# Altium footprint library HGH.PcbLib: 336 footprints (part 13 of 21)
Each footprint in its own frame and in the unit in brackets; x right, y up, seen from the top. Pads: shape width x height; smd on the part's side, far side on the other; paste and mask are expansions set on the pad; w line width, h text height; cw(c..) or ccw(c..) is an arc to the next point about the centre after c.
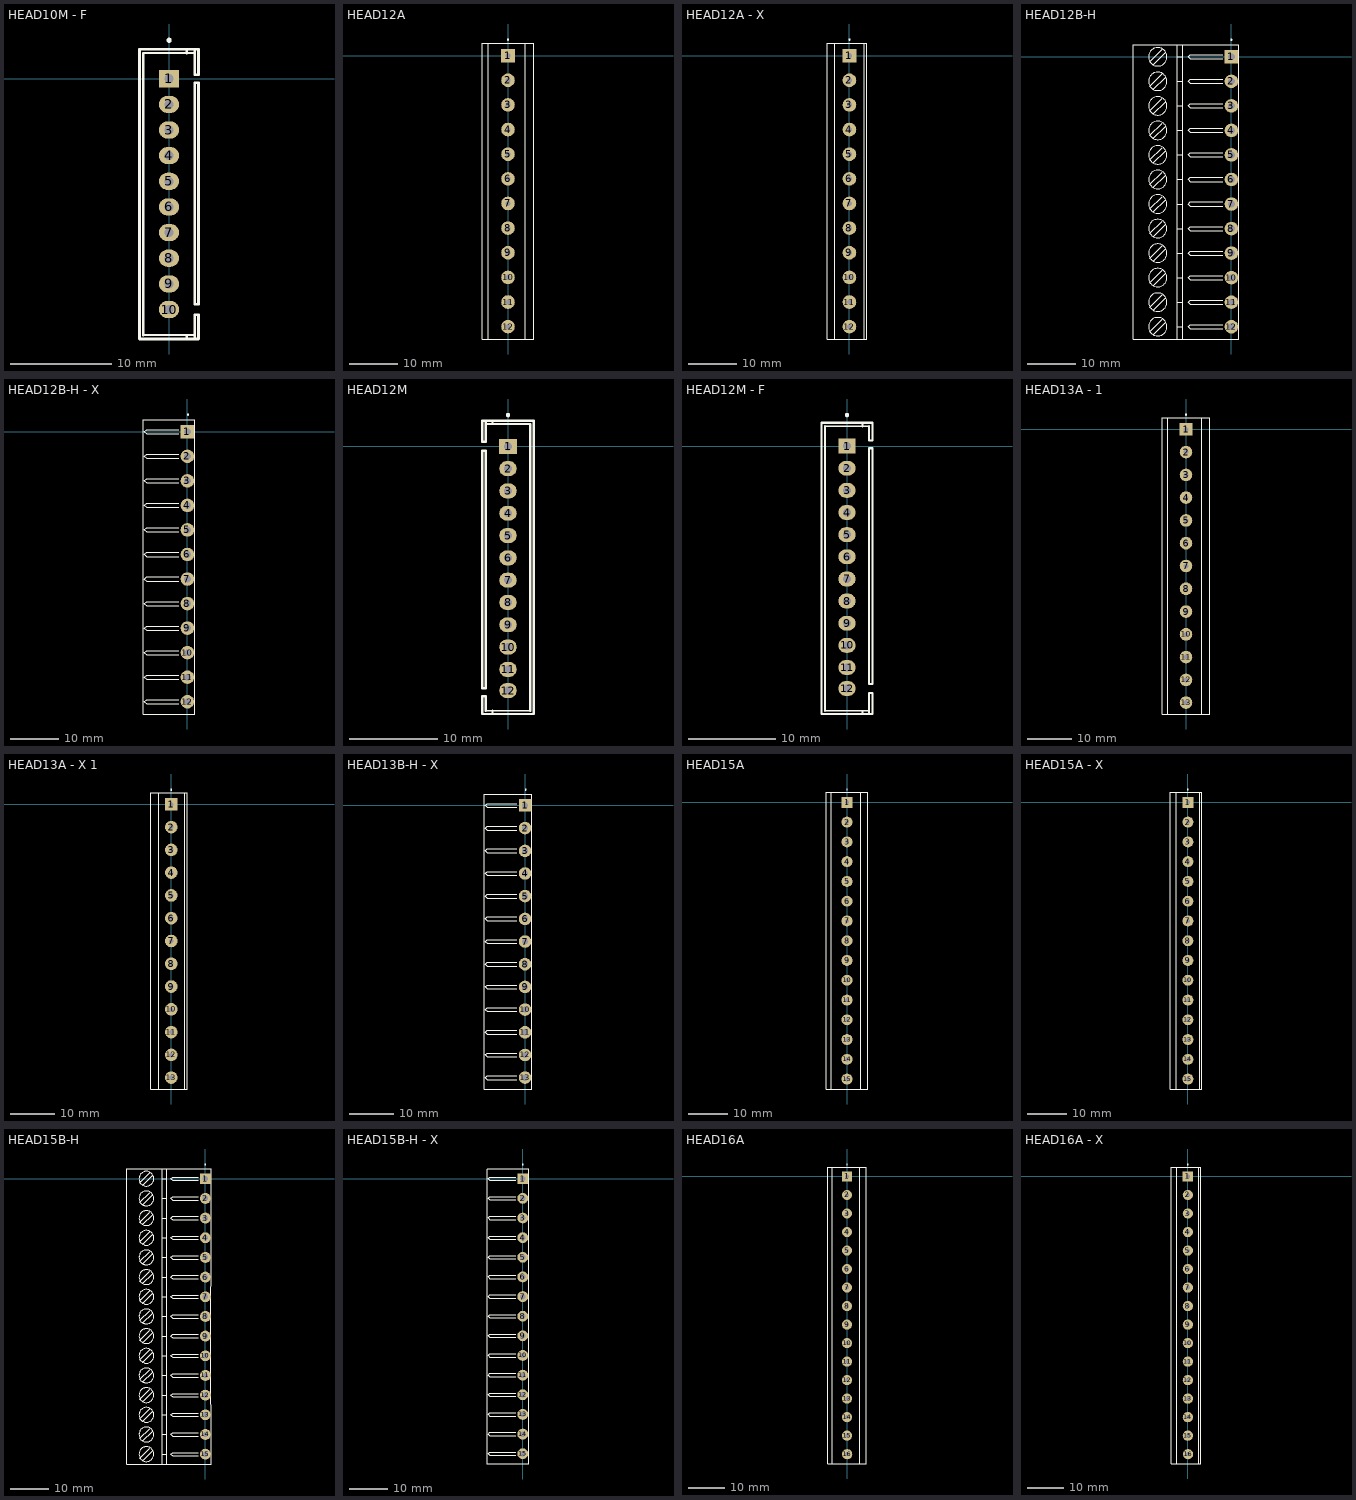
[diagram p12: the footprints below, top view; thin cyan lines are the x and y axes]

## HEAD10M - F [mm]
pads (10):
  rect 2x1.7 hole 0.9: 1(0,0)
  oval 2x1.7 hole 0.9: 2(0,-2.54) 3(0,-5.08) 4(0,-7.62) 5(0,-10.16) 6(0,-12.7) 7(0,-15.24) 8(0,-17.78) 9(0,-20.32) 10(0,-22.86)
Top Overlay:
  circle w0.25: c0.002,3.81 r0.125
  lines w0.2: -2.54,-25.4 2.54,-25.4 ; -2.54,2.54 2.54,2.54
  lines w0.254: -2.54,-25.4 -2.54,2.54 ; 1.778,-25.654 1.778,-25.4 ; 1.778,2.54 1.778,2.921 ; 2.54,-25.654 2.54,-25.4 2.54,-23.368 2.921,-23.368 2.921,-25.781 -2.921,-25.781 -2.921,2.921 2.921,2.921 2.921,0.381 2.54,0.381 2.54,2.54 2.54,2.794 ; 2.921,-0.508 2.921,-22.352 2.54,-22.352 2.54,-0.381 2.921,-0.381

## HEAD12A [mm]
pads (12):
  rect 2.8x2.8 hole 1.1: 1(0,0)
  round 2.8 hole 1.1: 2(0,-5.08) 3(0,-10.16) 4(0,-15.24) 5(0,-20.32) 6(0,-25.4) 7(0,-30.48) 8(0,-35.56) 9(0,-40.64) 10(0,-45.72) 11(0,-50.8) 12(0,-55.88)
Top Overlay:
  circle w0.25: c0,3.3 r0.125
  lines w0.2: -4.064,-58.42 -4.064,-48.26 -4.064,-38.1 -4.064,-27.94 -4.064,-17.78 -4.064,-7.62 -4.064,2.54 ; 3.556,-58.42 3.556,-48.26 3.556,-38.1 3.556,-27.94 3.556,-17.78 3.556,-7.62 3.556,2.54 ; -5.334,-58.42 5.334,-58.42 5.334,-48.26 5.334,-38.1 5.334,-27.94 5.334,-17.78 5.334,-7.62 5.334,2.54 -5.334,2.54 -5.334,-7.62 -5.334,-17.78 -5.334,-27.94 -5.334,-38.1 -5.334,-48.26 -5.334,-58.42

## HEAD12A - X [mm]
pads (12):
  rect 2.8x2.8 hole 1.1: 1(0,0)
  round 2.8 hole 1.1: 2(0,-5.08) 3(0,-10.16) 4(0,-15.24) 5(0,-20.32) 6(0,-25.4) 7(0,-30.48) 8(0,-35.56) 9(0,-40.64) 10(0,-45.72) 11(0,-50.8) 12(0,-55.88)
Top Overlay:
  circle w0.25: c0,3.3 r0.125
  lines w0.2: -3.048,-58.42 -3.048,2.54 ; 3.048,-58.42 3.048,2.54 ; -4.572,-58.42 -4.572,2.54 3.556,2.54 3.556,-58.42 -4.572,-58.42

## HEAD12B-H [mm]
pads (12):
  rect 2.8x2.8 hole 1.4: 1(0,0)
  round 2.8 hole 1.4: 2(0,-5.08) 3(0,-10.16) 4(0,-15.24) 5(0,-20.32) 6(0,-25.4) 7(0,-30.48) 8(0,-35.56) 9(0,-40.64) 10(0,-45.72) 11(0,-50.8) 12(0,-55.88)
Top Overlay:
  circle w0.2: c-15.24,-40.64 r1.905
  circle w0.2: c-15.24,-35.56 r1.905
  circle w0.2: c-15.24,-30.48 r1.905
  circle w0.2: c-15.24,-25.4 r1.905
  circle w0.2: c-15.24,-20.32 r1.905
  circle w0.2: c-15.24,-15.24 r1.905
  circle w0.2: c-15.24,-10.16 r1.905
  circle w0.2: c-15.24,-5.08 r1.905
  circle w0.2: c-15.24,0 r1.905
  circle w0.2: c-15.24,-45.72 r1.905
  circle w0.2: c-15.24,-50.8 r1.905
  circle w0.2: c-15.24,-55.88 r1.905
  circle w0.25: c0,3.554 r0.125
  lines w0.2: -16.891,-56.896 -14.351,-54.356 ; -16.891,-51.816 -14.351,-49.276 ; -16.891,-46.736 -14.351,-44.196 ; -16.891,-41.656 -14.351,-39.116 ; -16.891,-36.576 -14.351,-34.036 ; -16.891,-31.496 -14.351,-28.956 ; -16.891,-26.416 -14.351,-23.876 ; -16.891,-21.336 -14.351,-18.796 ; -16.891,-16.256 -14.351,-13.716 ; -16.891,-11.176 -14.351,-8.636 ; -16.891,-6.096 -14.351,-3.556 ; -16.891,-1.016 -14.351,1.524 ; -16.129,-57.531 -13.589,-54.991 ; -16.129,-52.451 -13.589,-49.911 ; -16.129,-47.371 -13.589,-44.831 ; -16.129,-42.291 -13.589,-39.751 ; -16.129,-37.211 -13.589,-34.671 ; -16.129,-32.131 -13.589,-29.591 ; -16.129,-27.051 -13.589,-24.511 ; -16.129,-21.971 -13.589,-19.431 ; -16.129,-16.891 -13.589,-14.351 ; -16.129,-11.811 -13.589,-9.271 ; -16.129,-6.731 -13.589,-4.191 ; -16.129,-1.651 -13.589,0.889 ; -11.176,-55.88 -10.033,-55.88 ; -11.176,-50.8 -10.033,-50.8 ; -11.176,-45.72 -10.033,-45.72 ; -11.176,-40.64 -10.033,-40.64 ; -11.176,-35.56 -10.033,-35.56 ; -11.176,-30.48 -10.033,-30.48 ; -11.176,-25.4 -10.033,-25.4 ; -11.176,-20.32 -10.033,-20.32 ; -11.176,-15.24 -10.033,-15.24 ; -11.176,-10.16 -10.033,-10.16 ; -11.176,-5.08 -10.033,-5.08 ; -11.176,0 -10.033,0 ; -11.176,2.54 -11.176,-12.7 -11.176,-27.94 -11.176,-43.18 -11.176,-58.42 ; -10.033,-58.42 -10.033,-43.18 -10.033,-27.94 -10.033,-12.7 -10.033,2.54 ; -1.82,-56.303 -8.467,-56.303 -8.89,-55.88 -8.467,-55.457 -1.82,-55.457 ; -1.82,-51.223 -8.467,-51.223 -8.89,-50.8 -8.467,-50.377 -1.82,-50.377 ; -1.82,-46.143 -8.467,-46.143 -8.89,-45.72 -8.467,-45.297 -1.82,-45.297 ; -1.82,-41.063 -8.467,-41.063 -8.89,-40.64 -8.467,-40.217 -1.82,-40.217 ; -1.82,-35.983 -8.467,-35.983 -8.89,-35.56 -8.467,-35.137 -1.82,-35.137 ; -1.82,-30.903 -8.467,-30.903 -8.89,-30.48 -8.467,-30.057 -1.82,-30.057 ; -1.82,-25.823 -8.467,-25.823 -8.89,-25.4 -8.467,-24.977 -1.82,-24.977 ; -1.82,-20.743 -8.467,-20.743 -8.89,-20.32 -8.467,-19.897 -1.82,-19.897 ; -1.82,-15.663 -8.467,-15.663 -8.89,-15.24 -8.467,-14.817 -1.82,-14.817 ; -1.82,-10.583 -8.467,-10.583 -8.89,-10.16 -8.467,-9.737 -1.82,-9.737 ; -1.82,-5.503 -8.467,-5.503 -8.89,-5.08 -8.467,-4.657 -1.82,-4.657 ; -1.82,-0.423 -8.467,-0.423 -8.89,0 -8.467,0.423 -1.82,0.423 ; 1.524,-43.434 1.524,2.54 -20.32,2.54 -20.32,-12.7 -20.32,-27.94 -20.32,-43.18 -20.32,-58.42 ; 1.524,-43.18 1.524,-58.42 ; -20.32,-58.42 -11.176,-58.42 ; -20.32,-58.42 1.524,-58.42 ; -11.176,-58.42 1.524,-58.42

## HEAD12B-H - X [mm]
pads (12):
  rect 2.8x2.8 hole 1.4: 1(0,0)
  round 2.8 hole 1.4: 2(0,-5.08) 3(0,-10.16) 4(0,-15.24) 5(0,-20.32) 6(0,-25.4) 7(0,-30.48) 8(0,-35.56) 9(0,-40.64) 10(0,-45.72) 11(0,-50.8) 12(0,-55.88)
Top Overlay:
  circle w0.25: c0.127,3.554 r0.125
  lines w0.2: -1.82,-56.303 -8.467,-56.303 -8.89,-55.88 -8.467,-55.457 -1.82,-55.457 ; -1.82,-51.223 -8.467,-51.223 -8.89,-50.8 -8.467,-50.377 -1.82,-50.377 ; -1.82,-46.143 -8.467,-46.143 -8.89,-45.72 -8.467,-45.297 -1.82,-45.297 ; -1.82,-41.063 -8.467,-41.063 -8.89,-40.64 -8.467,-40.217 -1.82,-40.217 ; -1.82,-35.983 -8.467,-35.983 -8.89,-35.56 -8.467,-35.137 -1.82,-35.137 ; -1.82,-30.903 -8.467,-30.903 -8.89,-30.48 -8.467,-30.057 -1.82,-30.057 ; -1.82,-25.823 -8.467,-25.823 -8.89,-25.4 -8.467,-24.977 -1.82,-24.977 ; -1.82,-20.743 -8.467,-20.743 -8.89,-20.32 -8.467,-19.897 -1.82,-19.897 ; -1.82,-15.663 -8.467,-15.663 -8.89,-15.24 -8.467,-14.817 -1.82,-14.817 ; -1.82,-10.583 -8.467,-10.583 -8.89,-10.16 -8.467,-9.737 -1.82,-9.737 ; -1.82,-5.503 -8.467,-5.503 -8.89,-5.08 -8.467,-4.657 -1.82,-4.657 ; -1.82,-0.423 -8.467,-0.423 -8.89,0 -8.467,0.423 -1.82,0.423 ; -9.144,-58.42 1.524,-58.42 1.524,-43.18 1.524,2.54 -9.144,2.54 -9.144,-58.42

## HEAD12M [mm]
pads (12):
  rect 2x1.7 hole 0.9: 1(0,0)
  oval 2x1.7 hole 0.9: 2(0,-2.54) 3(0,-5.08) 4(0,-7.62) 5(0,-10.16) 6(0,-12.7) 7(0,-15.24) 8(0,-17.78) 9(0,-20.32) 10(0,-22.86) 11(0,-25.4) 12(0,-27.813)
Top Overlay:
  circle w0.25: c0,3.554 r0.125
  lines w0.2: -2.54,-30.099 2.54,-30.099 ; -2.54,2.54 2.54,2.54
  lines w0.254: -2.54,-30.099 -2.54,-28.448 -2.921,-28.448 -2.921,-30.48 2.921,-30.48 2.921,2.921 -2.921,2.921 -2.921,0.508 -2.54,0.508 -2.54,2.54 -2.54,2.794 ; -1.778,-30.48 -1.778,-30.099 ; -1.778,2.667 -1.778,2.921 ; 2.54,-30.099 2.54,2.54 ; -2.921,-27.559 -2.921,-0.508 -2.54,-0.508 -2.54,-27.559 -2.921,-27.559

## HEAD12M - F [mm]
pads (12):
  rect 2x1.7 hole 0.9: 1(0,0)
  oval 2x1.7 hole 0.9: 2(0,-2.54) 3(0,-5.08) 4(0,-7.62) 5(0,-10.16) 6(0,-12.7) 7(0,-15.24) 8(0,-17.78) 9(0,-20.32) 10(0,-22.86) 11(0,-25.4) 12(0,-27.813)
Top Overlay:
  circle w0.25: c0.002,3.556 r0.125
  lines w0.2: -2.54,-30.353 2.54,-30.353 ; -2.54,2.286 2.54,2.286
  lines w0.254: -2.54,-30.353 -2.54,2.286 ; 1.778,-30.734 1.778,-30.48 ; 1.778,2.286 1.778,2.667 ; 2.54,-30.607 2.54,-30.353 2.54,-28.321 2.921,-28.321 2.921,-30.734 -2.921,-30.734 -2.921,2.667 2.921,2.667 2.921,0.635 2.54,0.635 2.54,2.286 ; 2.54,-27.305 2.921,-27.305 2.921,-0.254 2.54,-0.254 2.54,-27.305

## HEAD13A - 1 [mm]
pads (13):
  rect 2.8x2.8 hole 1.1: 1(0,0)
  round 2.8 hole 1.1: 2(0,-5.08) 3(0,-10.16) 4(0,-15.24) 5(0,-20.32) 6(0,-25.4) 7(0,-30.48) 8(0,-35.56) 9(0,-40.64) 10(0,-45.72) 11(0,-50.8) 12(0,-55.88) 13(0,-60.96)
Top Overlay:
  circle w0.25: c0,3.3 r0.125
  lines w0.2: -4.064,-63.5 -4.064,-48.26 -4.064,-38.1 -4.064,-27.94 -4.064,-17.78 -4.064,-7.62 -4.064,2.54 ; 3.556,-63.5 3.556,-48.26 3.556,-38.1 3.556,-27.94 3.556,-17.78 3.556,-7.62 3.556,2.54 ; -5.334,-63.5 5.334,-63.5 5.334,-48.26 5.334,-38.1 5.334,-27.94 5.334,-17.78 5.334,-7.62 5.334,2.54 -5.334,2.54 -5.334,-7.62 -5.334,-17.78 -5.334,-27.94 -5.334,-38.1 -5.334,-48.26 -5.334,-63.5

## HEAD13A - X 1 [mm]
pads (13):
  rect 2.8x2.8 hole 1.1: 1(0,0)
  round 2.8 hole 1.1: 2(0,-5.08) 3(0,-10.16) 4(0,-15.24) 5(0,-20.32) 6(0,-25.4) 7(0,-30.48) 8(0,-35.56) 9(0,-40.64) 10(0,-45.72) 11(0,-50.8) 12(0,-55.88) 13(0,-60.96)
Top Overlay:
  circle w0.25: c0,3.3 r0.125
  lines w0.2: -2.794,-63.5 -2.794,2.54 ; 3.048,-63.5 3.048,2.54 ; -4.572,-63.5 3.556,-63.5 3.556,2.54 -4.572,2.54 -4.572,-63.5

## HEAD13B-H - X [mm]
pads (13):
  rect 2.8x2.8 hole 1.4: 1(0,0)
  round 2.8 hole 1.4: 2(0,-5.08) 3(0,-10.16) 4(0,-15.24) 5(0,-20.32) 6(0,-25.4) 7(0,-30.48) 8(0,-35.56) 9(0,-40.64) 10(0,-45.72) 11(0,-50.8) 12(0,-55.88) 13(0,-60.96)
Top Overlay:
  circle w0.25: c0.127,3.554 r0.125
  lines w0.2: -1.82,-61.383 -8.467,-61.383 -8.89,-60.96 -8.467,-60.537 -1.82,-60.537 ; -1.82,-56.303 -8.467,-56.303 -8.89,-55.88 -8.467,-55.457 -1.82,-55.457 ; -1.82,-51.223 -8.467,-51.223 -8.89,-50.8 -8.467,-50.377 -1.82,-50.377 ; -1.82,-46.143 -8.467,-46.143 -8.89,-45.72 -8.467,-45.297 -1.82,-45.297 ; -1.82,-41.063 -8.467,-41.063 -8.89,-40.64 -8.467,-40.217 -1.82,-40.217 ; -1.82,-35.983 -8.467,-35.983 -8.89,-35.56 -8.467,-35.137 -1.82,-35.137 ; -1.82,-30.903 -8.467,-30.903 -8.89,-30.48 -8.467,-30.057 -1.82,-30.057 ; -1.82,-25.823 -8.467,-25.823 -8.89,-25.4 -8.467,-24.977 -1.82,-24.977 ; -1.82,-20.743 -8.467,-20.743 -8.89,-20.32 -8.467,-19.897 -1.82,-19.897 ; -1.82,-15.663 -8.467,-15.663 -8.89,-15.24 -8.467,-14.817 -1.82,-14.817 ; -1.82,-10.583 -8.467,-10.583 -8.89,-10.16 -8.467,-9.737 -1.82,-9.737 ; -1.82,-5.503 -8.467,-5.503 -8.89,-5.08 -8.467,-4.657 -1.82,-4.657 ; -1.82,-0.423 -8.467,-0.423 -8.89,0 -8.467,0.423 -1.82,0.423 ; -9.144,-63.5 -9.144,2.54 1.524,2.54 1.524,-43.18 1.524,-63.5 -9.144,-63.5

## HEAD15A [mm]
pads (15):
  rect 2.8x2.8 hole 1.1: 1(0,0)
  round 2.8 hole 1.1: 2(0,-5.08) 3(0,-10.16) 4(0,-15.24) 5(0,-20.32) 6(0,-25.4) 7(0,-30.48) 8(0,-35.56) 9(0,-40.64) 10(0,-45.72) 11(0,-50.8) 12(0,-55.88) 13(0,-60.96) 14(0,-66.04) 15(0,-71.12)
Top Overlay:
  circle w0.25: c0,3.3 r0.125
  lines w0.2: -4.064,-73.66 -4.064,-58.42 -4.064,-48.26 -4.064,-38.1 -4.064,-27.94 -4.064,-17.78 -4.064,-7.62 -4.064,2.54 ; 3.556,-73.66 3.556,-58.42 3.556,-48.26 3.556,-38.1 3.556,-27.94 3.556,-17.78 3.556,-7.62 3.556,2.54 ; -5.334,-73.66 5.334,-73.66 5.334,-58.42 5.334,-48.26 5.334,-38.1 5.334,-27.94 5.334,-17.78 5.334,-7.62 5.334,2.54 -5.334,2.54 -5.334,-7.62 -5.334,-17.78 -5.334,-27.94 -5.334,-38.1 -5.334,-48.26 -5.334,-58.42 -5.334,-73.66

## HEAD15A - X [mm]
pads (15):
  rect 2.8x2.8 hole 1.1: 1(0,0)
  round 2.8 hole 1.1: 2(0,-5.08) 3(0,-10.16) 4(0,-15.24) 5(0,-20.32) 6(0,-25.4) 7(0,-30.48) 8(0,-35.56) 9(0,-40.64) 10(0,-45.72) 11(0,-50.8) 12(0,-55.88) 13(0,-60.96) 14(0,-66.04) 15(0,-71.12)
Top Overlay:
  circle w0.25: c0,3.3 r0.125
  lines w0.2: -3.048,-73.66 -3.048,2.54 ; 3.048,-73.66 3.048,2.54 ; -4.572,-73.66 -4.572,2.54 3.556,2.54 3.556,-73.66 -4.572,-73.66

## HEAD15B-H [mm]
pads (15):
  rect 2.8x2.8 hole 1.4: 1(0,0)
  round 2.8 hole 1.4: 2(0,-5.08) 3(0,-10.16) 4(0,-15.24) 5(0,-20.32) 6(0,-25.4) 7(0,-30.48) 8(0,-35.56) 9(0,-40.64) 10(0,-45.72) 11(0,-50.8) 12(0,-55.88) 13(0,-60.96) 14(0,-66.04) 15(0,-71.12)
Top Overlay:
  circle w0.2: c-15.24,-71.12 r1.905
  circle w0.2: c-15.24,-66.04 r1.905
  circle w0.2: c-15.24,-60.96 r1.905
  circle w0.2: c-15.24,-55.88 r1.905
  circle w0.2: c-15.24,-50.8 r1.905
  circle w0.2: c-15.24,-45.72 r1.905
  circle w0.2: c-15.24,0 r1.905
  circle w0.2: c-15.24,-5.08 r1.905
  circle w0.2: c-15.24,-10.16 r1.905
  circle w0.2: c-15.24,-15.24 r1.905
  circle w0.2: c-15.24,-20.32 r1.905
  circle w0.2: c-15.24,-25.4 r1.905
  circle w0.2: c-15.24,-30.48 r1.905
  circle w0.2: c-15.24,-35.56 r1.905
  circle w0.2: c-15.24,-40.64 r1.905
  circle w0.25: c0,3.681 r0.125
  lines w0.2: -16.891,-72.136 -14.351,-69.596 ; -16.891,-67.056 -14.351,-64.516 ; -16.891,-61.976 -14.351,-59.436 ; -16.891,-56.896 -14.351,-54.356 ; -16.891,-51.816 -14.351,-49.276 ; -16.891,-46.736 -14.351,-44.196 ; -16.891,-41.656 -14.351,-39.116 ; -16.891,-36.576 -14.351,-34.036 ; -16.891,-31.496 -14.351,-28.956 ; -16.891,-26.416 -14.351,-23.876 ; -16.891,-21.336 -14.351,-18.796 ; -16.891,-16.256 -14.351,-13.716 ; -16.891,-11.176 -14.351,-8.636 ; -16.891,-6.096 -14.351,-3.556 ; -16.891,-1.016 -14.351,1.524 ; -16.129,-72.771 -13.589,-70.231 ; -16.129,-67.691 -13.589,-65.151 ; -16.129,-62.611 -13.589,-60.071 ; -16.129,-57.531 -13.589,-54.991 ; -16.129,-52.451 -13.589,-49.911 ; -16.129,-47.371 -13.589,-44.831 ; -16.129,-42.291 -13.589,-39.751 ; -16.129,-37.211 -13.589,-34.671 ; -16.129,-32.131 -13.589,-29.591 ; -16.129,-27.051 -13.589,-24.511 ; -16.129,-21.971 -13.589,-19.431 ; -16.129,-16.891 -13.589,-14.351 ; -16.129,-11.811 -13.589,-9.271 ; -16.129,-6.731 -13.589,-4.191 ; -16.129,-1.651 -13.589,0.889 ; -11.176,-71.12 -10.033,-71.12 ; -11.176,-66.04 -10.033,-66.04 ; -11.176,-60.96 -10.033,-60.96 ; -11.176,-55.88 -10.033,-55.88 ; -11.176,-50.8 -10.033,-50.8 ; -11.176,-45.72 -10.033,-45.72 ; -11.176,-40.64 -10.033,-40.64 ; -11.176,-35.56 -10.033,-35.56 ; -11.176,-30.48 -10.033,-30.48 ; -11.176,-25.4 -10.033,-25.4 ; -11.176,-20.32 -10.033,-20.32 ; -11.176,-15.24 -10.033,-15.24 ; -11.176,-10.16 -10.033,-10.16 ; -11.176,-5.08 -10.033,-5.08 ; -11.176,0 -10.033,0 ; -11.176,2.54 -11.176,-12.7 -11.176,-27.94 -11.176,-43.18 -11.176,-58.42 -11.176,-73.66 ; -10.033,-73.66 -10.033,-58.42 -10.033,-43.18 -10.033,-27.94 -10.033,-12.7 -10.033,2.54 ; -1.82,-71.543 -8.467,-71.543 -8.89,-71.12 -8.467,-70.697 -1.82,-70.697 ; -1.82,-66.463 -8.467,-66.463 -8.89,-66.04 -8.467,-65.617 -1.82,-65.617 ; -1.82,-61.383 -8.467,-61.383 -8.89,-60.96 -8.467,-60.537 -1.82,-60.537 ; -1.82,-56.303 -8.467,-56.303 -8.89,-55.88 -8.467,-55.457 -1.82,-55.457 ; -1.82,-51.223 -8.467,-51.223 -8.89,-50.8 -8.467,-50.377 -1.82,-50.377 ; -1.82,-46.143 -8.467,-46.143 -8.89,-45.72 -8.467,-45.297 -1.82,-45.297 ; -1.82,-41.063 -8.467,-41.063 -8.89,-40.64 -8.467,-40.217 -1.82,-40.217 ; -1.82,-35.983 -8.467,-35.983 -8.89,-35.56 -8.467,-35.137 -1.82,-35.137 ; -1.82,-30.903 -8.467,-30.903 -8.89,-30.48 -8.467,-30.057 -1.82,-30.057 ; -1.82,-25.823 -8.467,-25.823 -8.89,-25.4 -8.467,-24.977 -1.82,-24.977 ; -1.82,-20.743 -8.467,-20.743 -8.89,-20.32 -8.467,-19.897 -1.82,-19.897 ; -1.82,-15.663 -8.467,-15.663 -8.89,-15.24 -8.467,-14.817 -1.82,-14.817 ; -1.82,-10.583 -8.467,-10.583 -8.89,-10.16 -8.467,-9.737 -1.82,-9.737 ; -1.82,-5.503 -8.467,-5.503 -8.89,-5.08 -8.467,-4.657 -1.82,-4.657 ; -1.82,-0.423 -8.467,-0.423 -8.89,0 -8.467,0.423 -1.82,0.423 ; 1.397,-58.293 1.524,2.54 -20.32,2.54 -20.32,-12.7 -20.32,-27.94 -20.32,-43.18 -20.32,-58.42 -20.32,-73.66 -11.176,-73.66 ; 1.524,-58.42 1.524,-73.66 -11.176,-73.66

## HEAD15B-H - X [mm]
pads (15):
  rect 2.8x2.8 hole 1.4: 1(0,0)
  round 2.8 hole 1.4: 2(0,-5.08) 3(0,-10.16) 4(0,-15.24) 5(0,-20.32) 6(0,-25.4) 7(0,-30.48) 8(0,-35.56) 9(0,-40.64) 10(0,-45.72) 11(0,-50.8) 12(0,-55.88) 13(0,-60.96) 14(0,-66.04) 15(0,-71.12)
Top Overlay:
  circle w0.25: c0,3.681 r0.125
  lines w0.2: -9.144,-73.787 -9.144,2.413 ; -9.144,-73.66 1.524,-73.66 1.524,-58.42 ; -9.144,2.54 1.524,2.54 1.524,-58.801 ; -1.82,-71.543 -8.467,-71.543 -8.89,-71.12 -8.467,-70.697 -1.82,-70.697 ; -1.82,-66.463 -8.467,-66.463 -8.89,-66.04 -8.467,-65.617 -1.82,-65.617 ; -1.82,-61.383 -8.467,-61.383 -8.89,-60.96 -8.467,-60.537 -1.82,-60.537 ; -1.82,-56.303 -8.467,-56.303 -8.89,-55.88 -8.467,-55.457 -1.82,-55.457 ; -1.82,-51.223 -8.467,-51.223 -8.89,-50.8 -8.467,-50.377 -1.82,-50.377 ; -1.82,-46.143 -8.467,-46.143 -8.89,-45.72 -8.467,-45.297 -1.82,-45.297 ; -1.82,-41.063 -8.467,-41.063 -8.89,-40.64 -8.467,-40.217 -1.82,-40.217 ; -1.82,-35.983 -8.467,-35.983 -8.89,-35.56 -8.467,-35.137 -1.82,-35.137 ; -1.82,-30.903 -8.467,-30.903 -8.89,-30.48 -8.467,-30.057 -1.82,-30.057 ; -1.82,-25.823 -8.467,-25.823 -8.89,-25.4 -8.467,-24.977 -1.82,-24.977 ; -1.82,-20.743 -8.467,-20.743 -8.89,-20.32 -8.467,-19.897 -1.82,-19.897 ; -1.82,-15.663 -8.467,-15.663 -8.89,-15.24 -8.467,-14.817 -1.82,-14.817 ; -1.82,-10.583 -8.467,-10.583 -8.89,-10.16 -8.467,-9.737 -1.82,-9.737 ; -1.82,-5.503 -8.467,-5.503 -8.89,-5.08 -8.467,-4.657 -1.82,-4.657 ; -1.82,-0.423 -8.467,-0.423 -8.89,0 -8.467,0.423 -1.82,0.423

## HEAD16A [mm]
pads (16):
  rect 2.8x2.8 hole 1.1: 1(0,0)
  round 2.8 hole 1.1: 2(0,-5.08) 3(0,-10.16) 4(0,-15.24) 5(0,-20.32) 6(0,-25.4) 7(0,-30.48) 8(0,-35.56) 9(0,-40.64) 10(0,-45.72) 11(0,-50.8) 12(0,-55.88) 13(0,-60.96) 14(0,-66.04) 15(0,-71.12) 16(0.051,-76.2)
Top Overlay:
  circle w0.25: c0,3.3 r0.125
  lines w0.2: -4.064,-78.892 -4.064,-58.42 -4.064,-48.26 -4.064,-38.1 -4.064,-27.94 -4.064,-17.78 -4.064,-7.62 -4.064,2.54 ; 3.556,-78.892 3.556,-58.42 3.556,-48.26 3.556,-38.1 3.556,-27.94 3.556,-17.78 3.556,-7.62 3.556,2.54 ; -5.334,-78.842 -5.334,-58.42 -5.334,-48.26 -5.334,-38.1 -5.334,-27.94 -5.334,-17.78 -5.334,-7.62 -5.334,2.54 5.334,2.54 5.334,-7.62 5.334,-17.78 5.334,-27.94 5.334,-38.1 5.334,-48.26 5.334,-58.42 5.334,-78.842 -5.334,-78.842

## HEAD16A - X [mm]
pads (16):
  rect 2.8x2.8 hole 1.1: 1(0,0)
  round 2.8 hole 1.1: 2(0,-5.08) 3(0,-10.16) 4(0,-15.24) 5(0,-20.32) 6(0,-25.4) 7(0,-30.48) 8(0,-35.56) 9(0,-40.64) 10(0,-45.72) 11(0,-50.8) 12(0,-55.88) 13(0,-60.96) 14(0,-66.04) 15(0,-71.12) 16(0.051,-76.2)
Top Overlay:
  circle w0.25: c0,3.3 r0.125
  lines w0.2: -3.048,-78.892 -3.048,2.54 ; 3.048,-78.892 3.048,2.54 ; -4.572,-78.842 3.556,-78.842 3.556,2.54 -4.572,2.54 -4.572,-78.842